# EAGLE library part 23K256 (library mike-temp)
256Kb (32KB) SPI Serial SRAM Datasheet: http://ww1.microchip.com/downloads/en/DeviceDoc/22100F.pdf The Microchip Technology Inc. 23X256 are 256 Kbit Serial SRAM devices. The memory is accessed via a simple Serial Peripheral Interface (SPI) compatible serial bus. The bus signals required are a clock input (SCK) plus separate data in (SI) and data out (SO) lines. Access to the device is controlled through a Chip Select (CS) input. Communication to the device can be paused via the hold pin (HOLD). While the device is paused, transitions on its inputs will be ignored, with the exception of Chip Select, allowing the host to service higher priority interrupts. The 23X256 is available in standard packages including 8-lead PDIP and SOIC, and advanced packaging including 8-lead TSSOP. • Max. Clock 20 MHz • Low-Power CMOS Technology: - Read Current: 3 mA at 1 MHz - Standby Current: 4 uA Max. at +85°C • 32,768 x 8-bit Organization • 32-Byte Page • HOLD pin • Flexible Operating modes: - Byte read and write - Page mode (32 Byte Page) - Sequential mode • Sequential Read/Write • High Reliability • Temperature Range: - Industrial (I): -40C to +85C - Automotive (E): -40C to +125C • Pb-Free and RoHS Compliant, Halogen Free
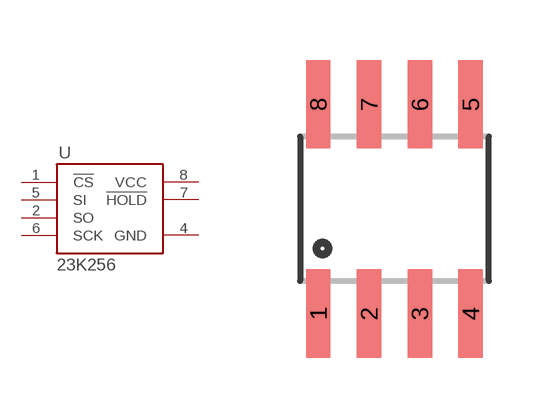
[diagram p18: symbol with the pads of SO08; footprint SO08]

Designator prefix U

## 23K256  [SO08]
1  !CS  in
2  SO  out
4  GND  pwr
5  SI  in
6  SCK  in
7  !HOLD  in
8  VCC  pwr

## Footprint SO08 (pad centres in mm)
Small Outline Package Fits JEDEC packages (narrow SOIC-8)
smd 0.61 x 2.21: 1 -1.905,-2.616; 2 -0.635,-2.616; 3 0.635,-2.616; 4 1.905,-2.616; 5 1.905,2.616; 6 0.635,2.616; 7 -0.635,2.616; 8 -1.905,2.616